# Altium schematic symbol library PSM_REV_C.SCHLIB: 21 symbols
Pins are listed as number, name and electrical type; pins without a type are passive.

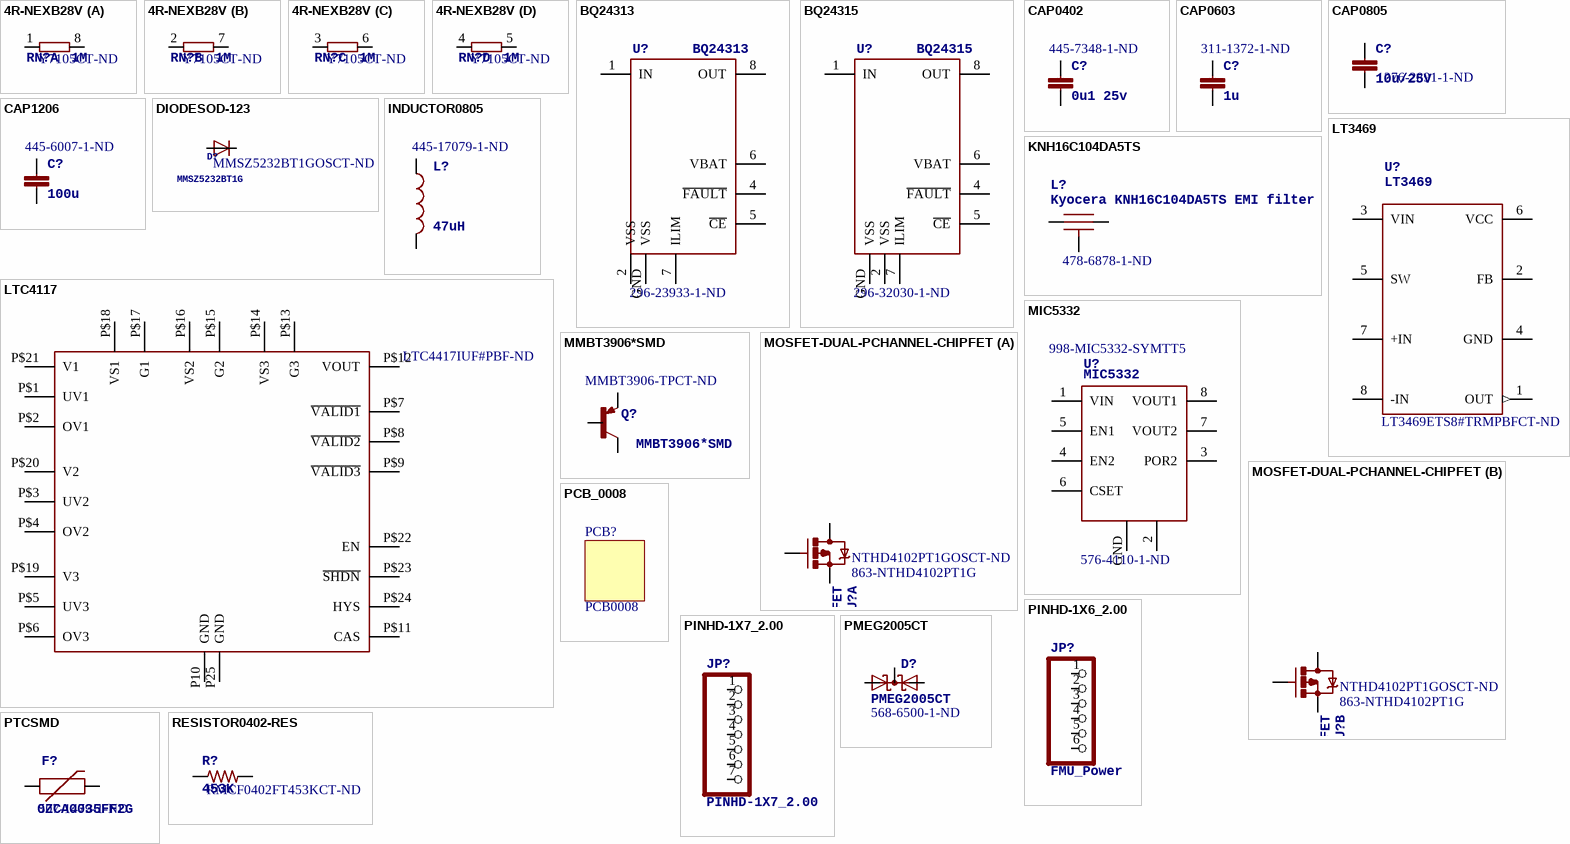
[diagram p0: symbols 4R-NEXB28V to RESISTOR0402-RES]

## 4R-NEXB28V
designator RN?, comment 1M  Supplier Part Number 1: Y7105CT-ND
RES ARRAY 1M OHM 4 RES 0804; PARTNO: EXB-28V105JX; 3DR_PARTNO: ECM0805; OC_FARNELL: unknown; OC_NEWARK: unknown; Supplier 1: Digi-Key; Value: 1M
footprint EXB28V
footprint EXB28V
footprint EXB28V
footprint EXB28V
part A pins: 1, 8 2
part B pins: 2 1, 7 2
part C pins: 3 1, 6 2
part D pins: 4 1, 5 2

## BQ24313
designator U?  Supplier Part Number 1: 296-23933-1-ND
IC LI+ CHARGER FRONT END 8-SON; 3DR_PARTNO: ECM0824; Value: 3.3V-30V; Supplier 1: Digi-Key
footprint QFN8-DSG
pins: 1 IN, 2 VSS, 4 ~{FAULT}, 5 ~{CE}, 6 VBAT, 7 ILIM, 8 OUT, GND VSS

## BQ24315
designator U?  Supplier Part Number 1: 296-32030-1-ND
IC LI+ CHARGER FRONT END 8SON; 3DR_PARTNO: ECM0541; Value: 3.3V-30V; Supplier 1: Digi-Key
footprint QFN8-DSG
pins: 1 IN, 2 VSS, 4 ~{FAULT}, 5 ~{CE}, 6 VBAT, 7 ILIM, 8 OUT, GND VSS

## CAP0402
designator C?, comment 0u1 25v  Supplier Part Number 1: 445-7348-1-ND
CAP CER 0.1UF 25V 10% X7R 0402; PARTNO: C1005X7R1E104K050BB; 3DR_PARTNO: ECM0701; Supplier 1: Digi-Key; Value: 0U1
footprint 0402-CAP
pins: P$1 1, P$2 2

## CAP0603
designator C?, comment 1u  Supplier Part Number 1: 311-1372-1-ND
CAP CER 1UF 16V Y5V 0603; PARTNO: CC0603ZRY5V7BB105; 3DR_PARTNO: ECM0705; Supplier 1: Digi-Key; Value: 1U
footprint 0603-CAP
pins: P$1 1, P$2 2

## CAP0805
designator C?, comment 10u/25V  Supplier Part Number 1: 1276-2891-1-ND
CAP CER 10UF 25V 10% X5R 0805; PARTNO: CL21A106KAYNNNE; 3DR_PARTNO: ECM0714; Supplier 1: Digi-Key; Value: 10UF
footprint 0805-CAP
pins: P$1 1, P$2 2

## CAP1206
designator C?, comment 100u  Supplier Part Number 1: 445-6007-1-ND
CAP CER 100UF 10V 20% X5R 1206; PARTNO: C3216X5R1A107M160AC; 3DR_PARTNO: ECM0716; Supplier 1: Digi-Key; Value: 100U
footprint 1206-CAP
pins: P$1 1, P$2 2

## DIODESOD-123
designator D?, comment MMSZ5232BT1G  Supplier Part Number 1: MMSZ5232BT1GOSCT-ND
DIODE ZENER 5.6V 500MW SOD123; 3DR_PARTNO: ECM0536; Supplier 1: Digi-Key; Value: 5.6V
footprint SOD-123
pins: A, C

## INDUCTOR0805
designator L?, comment 47uH  Supplier Part Number 1: 445-17079-1-ND
FIXED IND 47UH 170MA 4.81 OHM; PARTNO: MLZ2012M470W; 3DR_PARTNO: ECM0814; Supplier 1: Digi-Key; Value: 47UH
footprint 0805-IND
pins: P$1 1, P$2 2

## KNH16C104DA5TS
designator L?, comment Kyocera KNH16C104DA5TS EMI filter  Supplier Part Number 1: 478-6878-1-ND
FILTER CAP 0.1UF 2A 25V 0603; 3DR_PARTNO: ECM0719; Value: 0U1; Supplier 1: Digi-Key; PARTNO: KNH16C104DA5TS
footprint KYOCERA-KNH16-DA
pins: GND, P$1, P$2

## LT3469
designator U?  Supplier Part Number 1: LT3469ETS8#TRMPBFCT-ND
IC AMP DVR W/REG 1.3MHZ TSOT23-8; 3DR_PARTNO: ECM0829; Value: BUZZER; Supplier 1: Digi-Key
footprint SOT23-8
pins: 1 OUT (out), 2 FB, 3 VIN (power), 4 GND (power), 5 SW, 6 VCC, 7 +IN, 8 -IN

## LTC4117
designator U?, comment Supplier Part Number 1: LTC4417IUF#PBF-ND  (hidden comment: LTC4417)
IC OR CTRLR SRC SELECT 24QFN; 3DR_PARTNO: ECM0830; Value: 3:1; Supplier 1: Digi-Key
footprint MO-220
pins: P10 GND, P25 GND, P$1 UV1, P$2 OV1, P$3 UV2, P$4 OV2, P$5 UV3, P$6 OV3, P$7 ~{VALID1}, P$8 ~{VALID2}, P$9 ~{VALID3}, P$11 CAS, P$12 VOUT, P$13 G3, P$14 VS3, P$15 G2, P$16 VS2, P$17 G1, P$18 VS1, P$19 V3, P$20 V2, P$21 V1, P$22 EN, P$23 ~{SHDN}, P$24 HYS

## MIC5332
designator U?  Supplier Part Number 1: 576-4110-1-ND  Supplier Part Number 2: 998-MIC5332-SYMTT5
IC REG LDO 3.3V 0.3A 8TMLF; 3DR_PARTNO: ECM0832; Supplier 1: Digi-Key; Supplier 2: Mouser; Value: 3.3V
footprint MLF-8-EPAD
pins: 1 VIN, 2 GND (power), 3 POR2, 4 EN2, 5 EN1, 6 CSET, 7 VOUT2, 8 VOUT1, GND (power)

## MMBT3906*SMD
designator Q?  Supplier Part Number 1: MMBT3906-TPCT-ND
TRANS SS PNP 40V 300MW SOT23; 3DR_PARTNO: ECM0539; Supplier 1: Digi-Key; Value: 40V
footprint SOT23-BEC
pins: B, C, E

## MOSFET-DUAL-PCHANNEL-CHIPFET
designator U?  Supplier Part Number 1: NTHD4102PT1GOSCT-ND  Supplier Part Number 2: 863-NTHD4102PT1G
MOSFET 2P-CH 20V 2.9A CHIPFET; 3DR_PARTNO: EMC0901; Supplier 1: Digi-Key; Supplier 2: Mouser; Value: 20V 2.9A
footprint 1206-8
part A pins: P1 S, P2 G, P7 D
part B pins: P3 S, P4 G, P5 D

## PCB_0008
designator PCB?, comment PCB0008
3DR_PARTNO: PCB0008; Value: PCB0008

## PINHD-1X6_2.00
designator JP?, comment FMU_Power
<b>PIN HEADER</b>
footprint 1X06M
pins: 1, 2, 3, 4, 5, 6

## PINHD-1X7_2.00
designator JP?
<b>PIN HEADER</b>
footprint 1X07M
pins: 1, 2, 3, 4, 5, 6, 7

## PMEG2005CT
designator D?  Supplier Part Number 1: 568-6500-1-ND
DIODE SCHOTTKY 20V 500MA TO236AB; 3DR_PARTNO: ECM0838; PARTNO: PMEG2005CT; Supplier 1: Digi-Key; Value: 20V
footprint SOT23-3
pins: 1 A1, 2 A2, 3 CC

## PTCSMD
designator F?, comment 0ZCA0035FF2G  Supplier Part Number 1: 507-1479-1-ND
PTC RESTTBLE 0.35A 16V CHIP 1206; 3DR_PARTNO: ECM0802; PARTNO: 0ZCA0035FF2G; Supplier 1: Digi-Key; Value: 0.35A
footprint PTC-1206
pins: 1, 2

## RESISTOR0402-RES
designator R?, comment 453K  Supplier Part Number 1: RMCF0402FT453KCT-ND
RES 453K OHM 1/16W 1% 0402; PARTNO: RMCF0402FT453K; 3DR_PARTNO: ECM0822; Supplier 1: Digi-Key; Value: 453K
footprint 0402-RES
pins: P$1 1, P$2 2